# Altium schematic symbol library IVV_Passive.SchLib: 51 symbols
Pins are listed as number, name and electrical type; pins without a type are passive.

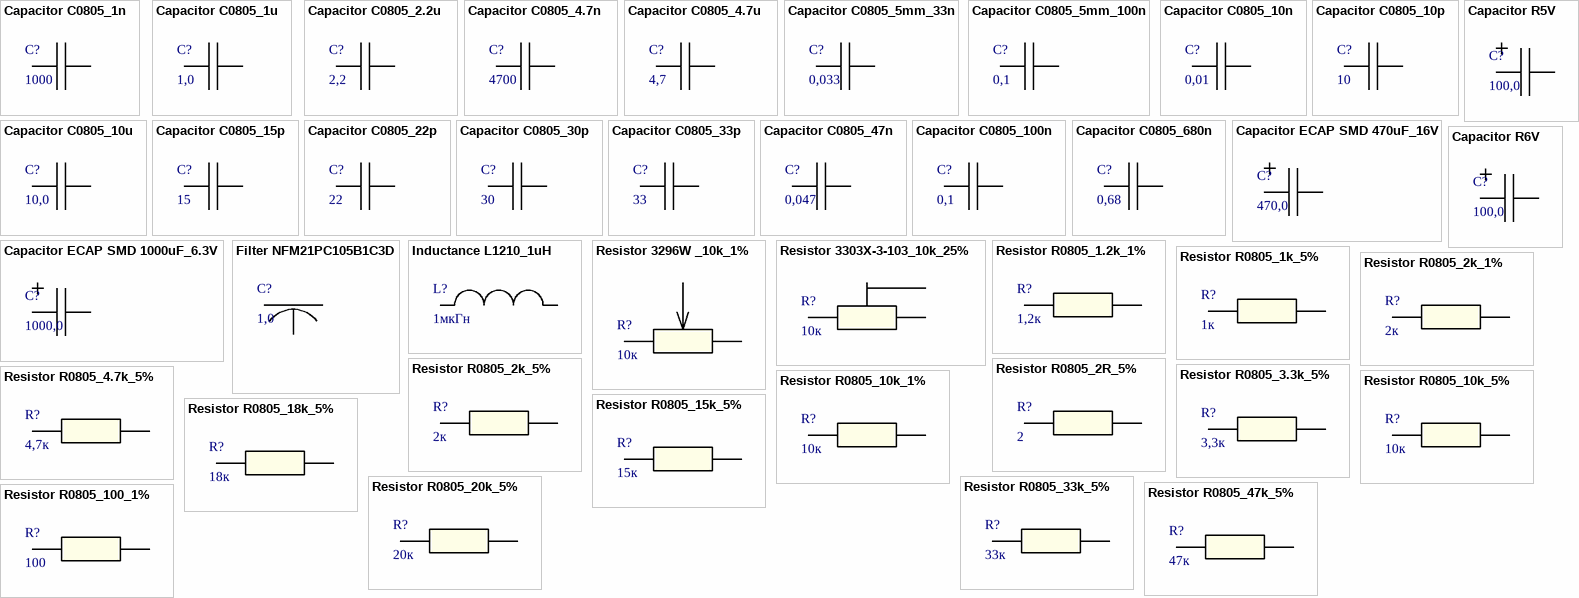
[diagram p0: symbols Capacitor C0805_1n to Resistor R0805_100_1%]

## Capacitor C0805_1n
designator C?, comment 1000
Value: 1000
footprint Capacitor SMD0805-T0.75
pins: 1, 2

## Capacitor C0805_1u
designator C?, comment 1,0
Value: 1,0
footprint Capacitor SMD0805-T1.35
pins: 1, 2

## Capacitor C0805_2.2u
designator C?, comment 2,2
Value: 2,2
footprint Capacitor SMD0805-T1.35
pins: 1, 2

## Capacitor C0805_4.7n
designator C?, comment 4700
Value: 4700
footprint Capacitor SMD0805-T0.75
pins: 1, 2

## Capacitor C0805_4.7u
designator C?, comment 4,7
Value: 4,7
footprint Capacitor SMD0805-T1.35
pins: 1, 2

## Capacitor C0805_5mm_33n
designator C?, comment 0,033
Value: 0,033
footprint Capacitor SMD0805_5mm
pins: 1, 2

## Capacitor C0805_5mm_100n
designator C?, comment 0,1
Value: 0,1
footprint Capacitor SMD0805_5mm
pins: 1, 2

## Capacitor C0805_10n
designator C?, comment 0,01
Value: 0,01
footprint Capacitor SMD0805-T0.75
pins: 1, 2

## Capacitor C0805_10p
designator C?, comment 10
Value: 10
footprint Capacitor SMD0805-T0.75
pins: 1, 2

## Capacitor C0805_10u
designator C?, comment 10,0
Value: 10,0
footprint Capacitor SMD0805-T1.35
pins: 1, 2

## Capacitor C0805_15p
designator C?, comment 15
Value: 15
footprint Capacitor SMD0805-T0.75
pins: 1, 2

## Capacitor C0805_22p
designator C?, comment 22
Value: 22
footprint Capacitor SMD0805-T0.75
pins: 1, 2

## Capacitor C0805_30p
designator C?, comment 30
Value: 30
footprint Capacitor SMD0805-T0.75
pins: 1, 2

## Capacitor C0805_33p
designator C?, comment 33
Value: 33
footprint Capacitor SMD0805-T0.75
pins: 1, 2

## Capacitor C0805_47n
designator C?, comment 0,047
Value: 0,047
footprint Capacitor SMD0805-T0.75
pins: 1, 2

## Capacitor C0805_100n
designator C?, comment 0,1
Value: 0,1
footprint Capacitor SMD0805-T0.95
pins: 1, 2

## Capacitor C0805_680n
designator C?, comment 0,68
Value: 0,68
footprint Capacitor SMD0805-T0.95
pins: 1, 2

## Capacitor ECAP SMD 470uF_16V
designator C?, comment 470,0
Value: 470,0
footprint Capacitor ECAP SMD10x10.5
pins: 1, 2

## Capacitor ECAP SMD 1000uF_6.3V
designator C?, comment 1000,0
Value: 1000,0
footprint Capacitor ECAP SMD10x10.5
pins: 1, 2

## Capacitor R5V
designator C?, comment 100,0
Value: 100,0
footprint Capacitor R5V
pins: 1, 2

## Capacitor R6V
designator C?, comment 100,0
Value: 100,0
footprint Capacitor R6V
pins: 1, 2

## Filter NFM21PC105B1С3D
designator C?, comment 1,0
Value: 1,0
footprint Filter NFM21PC
pins: 1, 2, 3

## Inductance L1210_1uH
designator L?, comment 1мкГн
Value: 1мкГн
footprint Inductor SMD1210
pins: 1, 2

## Resistor 3296W _10k_1%
designator R?, comment 10к
Value: 10к
footprint Resistor 3296W
pins: 1, 2, 3

## Resistor 3303X-3-103_10k_25%
designator R?, comment 10к
Value: 10к
footprint Resistor 3303X-3
pins: 1, 2, 3

## Resistor R0805_1.2k_1%
designator R?, comment 1,2к
Value: 1,2к
footprint Resistor SMD0805
pins: 1, 2

## Resistor R0805_1k_5%
designator R?, comment 1к
Value: 1к
footprint Resistor SMD0805
pins: 1, 2

## Resistor R0805_2k_1%
designator R?, comment 2к
Value: 2к
footprint Resistor SMD0805
pins: 1, 2

## Resistor R0805_2k_5%
designator R?, comment 2к
Value: 2к
footprint Resistor SMD0805
pins: 1, 2

## Resistor R0805_2R_5%
designator R?, comment 2
Value: 2
footprint Resistor SMD0805
pins: 1, 2

## Resistor R0805_3.3k_5%
designator R?, comment 3,3к
Value: 3,3к
footprint Resistor SMD0805
pins: 1, 2

## Resistor R0805_4.7k_5%
designator R?, comment 4,7к
Value: 4,7к
footprint Resistor SMD0805
pins: 1, 2

## Resistor R0805_10k_1%
designator R?, comment 10к
Value: 10к
footprint Resistor SMD0805
pins: 1, 2

## Resistor R0805_10k_5%
designator R?, comment 10к
Value: 10к
footprint Resistor SMD0805
pins: 1, 2

## Resistor R0805_15k_5%
designator R?, comment 15к
Value: 15к
footprint Resistor SMD0805
pins: 1, 2

## Resistor R0805_18k_5%
designator R?, comment 18к
Value: 18к
footprint Resistor SMD0805
pins: 1, 2

## Resistor R0805_20k_5%
designator R?, comment 20к
Value: 20к
footprint Resistor SMD0805
pins: 1, 2

## Resistor R0805_33k_5%
designator R?, comment 33к
Value: 33к
footprint Resistor SMD0805
pins: 1, 2

## Resistor R0805_47k_5%
designator R?, comment 47к
Value: 47к
footprint Resistor SMD0805
pins: 1, 2

## Resistor R0805_100_1%
designator R?, comment 100
Value: 100
footprint Resistor SMD0805
pins: 1, 2

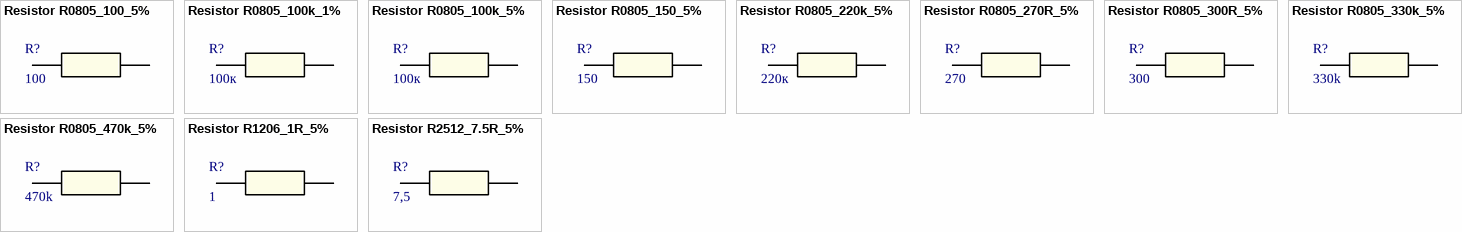
[diagram p1: symbols Resistor R0805_100_5% to Resistor R2512_7.5R_5%]

## Resistor R0805_100_5%
designator R?, comment 100
Value: 100
footprint Resistor SMD0805
pins: 1, 2

## Resistor R0805_100k_1%
designator R?, comment 100к
Value: 100к
footprint Resistor SMD0805
pins: 1, 2

## Resistor R0805_100k_5%
designator R?, comment 100к
Value: 100к
footprint Resistor SMD0805
pins: 1, 2

## Resistor R0805_150_5%
designator R?, comment 150
Value: 150
footprint Resistor SMD0805
pins: 1, 2

## Resistor R0805_220k_5%
designator R?, comment 220к
Value: 220к
footprint Resistor SMD0805
pins: 1, 2

## Resistor R0805_270R_5%
designator R?, comment 270
Value: 270
footprint Resistor SMD0805
pins: 1, 2

## Resistor R0805_300R_5%
designator R?, comment 300
Value: 300
footprint Resistor SMD0805
pins: 1, 2

## Resistor R0805_330k_5%
designator R?, comment 330k
Value: 330к
footprint Resistor SMD0805
pins: 1, 2

## Resistor R0805_470k_5%
designator R?, comment 470k
Value: 470к
footprint Resistor SMD0805
pins: 1, 2

## Resistor R1206_1R_5%
designator R?, comment 1
Value: 1
footprint Resistor SMD1206
pins: 1, 2

## Resistor R2512_7.5R_5%
designator R?, comment 7,5
Value: 7,5
footprint Resistor SMD2512
pins: 1, 2